# Altium footprint library LEDs.PcbLib: 18 footprints (part 2 of 2)
Each footprint in its own frame and in the unit in brackets; x right, y up, seen from the top. Pads: shape width x height; smd on the part's side, far side on the other; paste and mask are expansions set on the pad; w line width, h text height; cw(c..) or ccw(c..) is an arc to the next point about the centre after c.
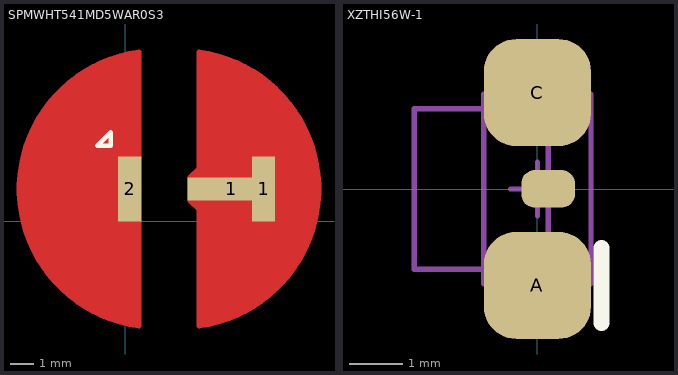
[diagram p1: the footprints below, top view; thin cyan lines are the x and y axes]

## SPMWHT541MD5WAR0S3 [mm]
pads (3):
  rect 3.8x1 smd paste-0.05 mask+0.02: 1(4.6,1.4)
  rect 1x2.8 smd paste-0.05 mask+0.02: 1(6,1.4) 2(0.2,1.4)
Top Layer:
  region: 3.2,-4.55 3.2,0.5 2.8,0.9 2.8,1.9 3.2,2.3 3.2,7.35 3.55,7.35 3.725,7.175 4.275,7.175 4.525,6.925 4.925,6.925 5.3,6.55 5.6,6.55 6.2,5.95 6.325,5.95 7.35,4.925 7.35,4.625 7.825,4.15 7.825,3.775 8.1,3.5 8.1,3.025 8.325,2.8 8.325,0.075 8.125,-0.125 8.125,-0.625 7.9,-0.85 7.9,-1.175 7.575,-1.5 7.575,-1.8 5.7,-3.675 5.5,-3.675 5.2,-3.975 4.925,-3.975 4.675,-4.225 4.3,-4.225 4.125,-4.4 3.675,-4.4 3.529,-4.546 3.2,-4.546
  region: 0.6,7.35 0.6,-4.55 0.25,-4.55 0.075,-4.375 -0.475,-4.375 -0.725,-4.125 -1.125,-4.125 -1.5,-3.75 -1.8,-3.75 -2.4,-3.15 -2.525,-3.15 -3.55,-2.125 -3.55,-1.825 -4.025,-1.35 -4.025,-0.975 -4.3,-0.7 -4.3,-0.225 -4.525,0 -4.525,2.725 -4.325,2.925 -4.325,3.425 -4.1,3.65 -4.1,3.975 -3.775,4.3 -3.775,4.6 -1.9,6.475 -1.7,6.475 -1.4,6.775 -1.125,6.775 -0.875,7.025 -0.5,7.025 -0.325,7.2 0.125,7.2 0.271,7.346 0.6,7.346
  lines w0.203: 0.45,0.175 0.6,0.025 0.6,-4.55 ; 0.45,2.625 0.6,2.775 0.6,7.35 ; 0.6,-4.546 cw(c1.4,1.4) 0.6,7.346 ; 3.196,7.347 cw(c2.4,1.4) 3.2,-4.546 ; 3.2,-4.55 3.2,0.025 ; 3.2,7.35 3.2,3.3 3.2,2.3 2.8,1.9 2.8,0.9 3.2,0.5 3.2,0.025 ; 3.2,0.025 3.2,0.025
Top Overlay:
  lines w0.203: -1.2,3.275 -0.625,3.85 -0.625,3.275 -1.2,3.275
3D body: height 1.4, standoff 0, extent 0.6,-0.1 5.6,2.9

## XZTHI56W-1 [mm]
height 0.8
pads (3):
  rrect60% 2x2 smd paste-0.03: A(0,-1.802) C(0,1.802)
  rrect70% 1x0.7 smd paste-0.06: ""(0.2,0.002)
Top Overlay:
  lines w0.3: 1.2,-2.5 1.2,-1.1
Mechanical 13:
  lines w0.1: -2.3,-1.5 0.2,-1.5 0.2,1.5 -2.3,1.5 -2.3,-1.5
Mechanical 15:
  lines w0.1: -0.5,0 0.5,0 ; 0,-0.5 0,0.5 ; -1,-1.775 1,-1.775 1,1.775 -1,1.775 -1,-1.775
3D body "XZxx56x-1.step": height 1, standoff 0, extent -2.292,-1.5 0.2,1.5